# EAGLE library part CSI (library reclone-rise)
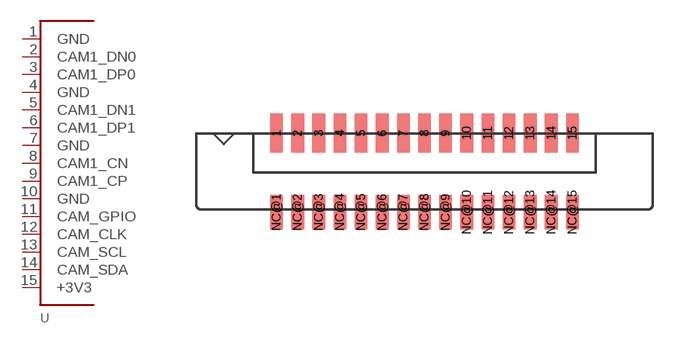
[diagram p8: symbol with the pads of FPC15-1.0; footprint FPC15-1.0]

Designator prefix -

## CSI  [FPC15-1.0]
1  GND
2  CAM1_DN0
3  CAM1_DP0
4  GND
5  CAM1_DN1
6  CAM1_DP1
7  GND
8  CAM1_CN
9  CAM1_CP
10  GND
11  CAM_GPIO
12  CAM_CLK
13  CAM_SCL
14  CAM_SDA
15  +3V3

## Footprint FPC15-1.0 (pad centres in mm)
smd 0.6 x 1.85: 1 -7,1.825; 2 -6,1.825; 3 -5,1.825; 4 -4,1.825; 5 -3,1.825; 6 -2,1.825; 7 -1,1.825; 8 0,1.825; 9 1,1.825; 10 2,1.825; 11 3,1.825; 12 4,1.825; 13 5,1.825; 14 6,1.825; 15 7,1.825
smd 0.6 x 1.65: NC@1 -7,-1.925; NC@2 -6,-1.925; NC@3 -5,-1.925; NC@4 -4,-1.925; NC@5 -3,-1.925; NC@6 -2,-1.925; NC@7 -1,-1.925; NC@8 0,-1.925; NC@9 1,-1.925; NC@10 2,-1.925; NC@11 3,-1.925; NC@12 4,-1.925; NC@13 5,-1.925; NC@14 6,-1.925; NC@15 7,-1.925